# EAGLE library part HMC284AMS8G (library kj4qlp)
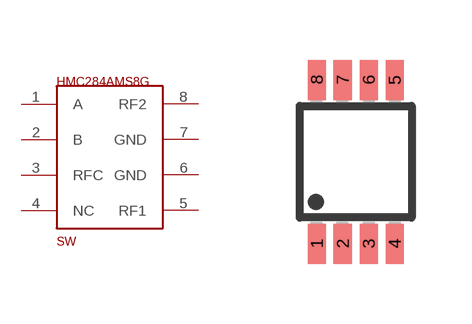
[diagram p4: symbol with the pads of MSOP8; footprint MSOP8]

Designator prefix SW

## HMC284AMS8G  [MSOP8]
1  A
2  B
3  RFC
4  NC
5  RF1
6  GND
7  GND
8  RF2

## Footprint MSOP8 (pad centres in mm)
Micro Small Outline Package
smd 0.45 x 1: 1 -0.975,-2.05; 2 -0.325,-2.05; 3 0.325,-2.05; 4 0.975,-2.05; 5 0.975,2.05; 6 0.325,2.05; 7 -0.325,2.05; 8 -0.975,2.05